# Altium schematic symbol library Potentiometer.SchLib: 1 symbol
Pins are listed as number, name and electrical type; pins without a type are passive.

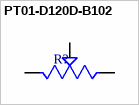
[diagram p0: symbol PT01-D120D-B102]

## PT01-D120D-B102
designator R?, comment Potentiometer  (value not drawn)
PT01-D120D-B102; Watt: 0.05W; Mounted: Yes; Package / Case: Custom; Precision: N/A; Supplier 2: Digi-Key; Supplier 1: Digi-Key; Supplier Part Number 1: PT01-D120D-B102
footprint TRIM_PT01-D120D-B102
pins: 1, 2, 3